# Altium schematic symbol library HT75XX-1.SchLib: 1 symbol
Pins are listed as number, name and electrical type; pins without a type are passive.

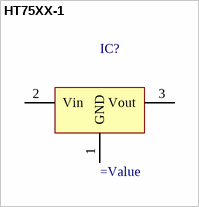
[diagram p0: symbol HT75XX-1]

## HT75XX-1
designator IC?
=Description
pins: 1 GND (power), 2 Vin (power), 3 Vout (power)